# Altium footprint library TE_227161-1.PcbLib: 1 footprints
Each footprint in its own frame and in the unit in brackets; x right, y up, seen from the top. Pads: shape width x height; smd on the part's side, far side on the other; paste and mask are expansions set on the pad; w line width, h text height; cw(c..) or ccw(c..) is an arc to the next point about the centre after c.
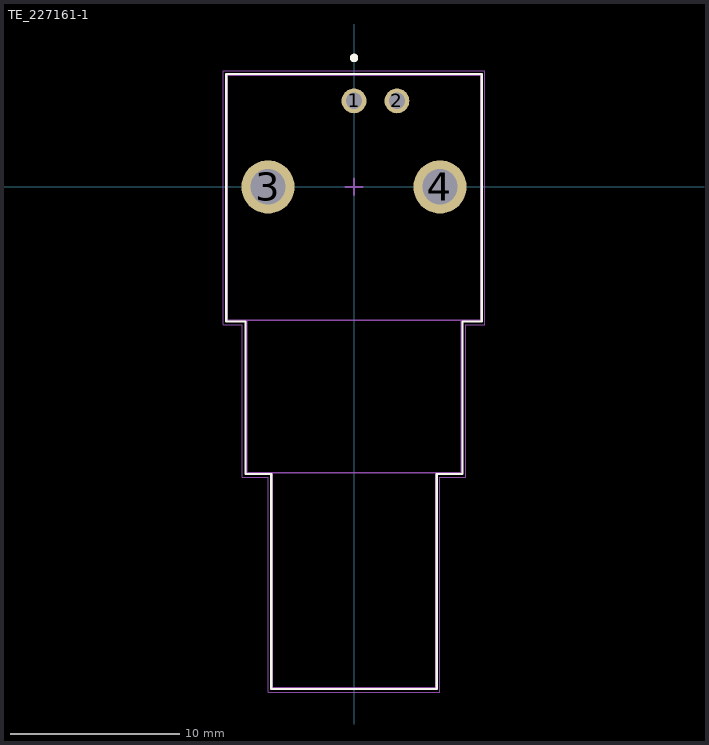
[diagram p0: the footprint, top view; thin cyan lines are the x and y axes]

## TE_227161-1 [mm]
height 16.13
pads (4):
  round 1.46 hole 0.97: 1(0,5.08) 2(2.54,5.08)
  round 3.14 hole 2.09: 3(-5.08,0) 4(5.08,0)
Top Overlay:
  circle w0.25: c0,7.62 r0.125
  lines w0.127: -7.544,-7.943 -7.544,6.663 7.544,6.663 7.544,-7.943 6.413,-7.943 6.413,-16.953 4.888,-16.953 4.888,-29.663 -4.888,-29.663 -4.888,-16.953 -6.413,-16.953 -6.413,-7.943 -7.544,-7.943
Top Assembly:
  circle w0.1: c0,5.08 r0.5
  lines w0.1: -6.35,-7.88 6.35,-7.88 ; -6.35,-7.88 -7.48,-7.88 -7.48,6.6 7.48,6.6 7.48,-7.88 6.35,-7.88 ; -6.35,-7.88 -6.35,-16.89 -4.825,-16.89 ; -4.825,-16.89 4.825,-16.89 ; -4.825,-16.89 -4.825,-16.953 -4.825,-29.6 4.825,-29.6 4.825,-16.953 4.825,-16.89 ; 4.825,-16.89 6.35,-16.89 6.35,-7.88
Top Designator:
  text ".Designator" at -3.647,-0.357 h1
Top Courtyard:
  lines w0.05: -7.73,-8.13 -6.6,-8.13 -6.6,-17.14 -5.075,-17.14 -5.075,-29.85 5.075,-29.85 5.075,-17.14 6.6,-17.14 6.6,-8.13 7.73,-8.13 7.73,6.85 -7.73,6.85 -7.73,-8.13
Top Component Center (Mech17):
  lines w0.1: -0.5,0 0.5,0 ; 0,-0.5 0,0.5
3D body "step_temp.STEP": height 16.13, standoff -4.54, extent -7.38,-28.58 7.38,6.98